# Altium schematic symbol library GPS.SchLib: 1 symbol
Pins are listed as number, name and electrical type; pins without a type are passive.

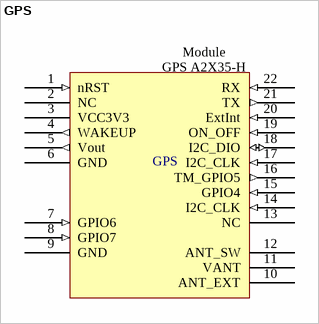
[diagram p0: symbol GPS]

## GPS
designator GPS  (value not drawn)
Module GPS A2235-H
footprint A2235-H (PCB Librairy for GPS A2235-H)
pins: 1 nRST (in), 2 NC, 3 VCC3V3 (power), 4 WAKEUP (out), 5 Vout (out), 6 GND (power), 7 GPIO6 (in), 8 GPIO7 (in), 9 GND (power), 10 ANT_EXT, 11 VANT, 12 ANT_SW, 13 NC, 14 I2C_CLK (in), 15 GPIO4 (in), 16 TM_GPIO5 (out), 17 I2C_CLK (in), 18 I2C_DIO (io), 19 ON_OFF (in), 20 ExtInt (in), 21 TX (out), 22 RX (in)
text: Module / GPS A2X35-H